# EAGLE library part IM920 (library IM920)
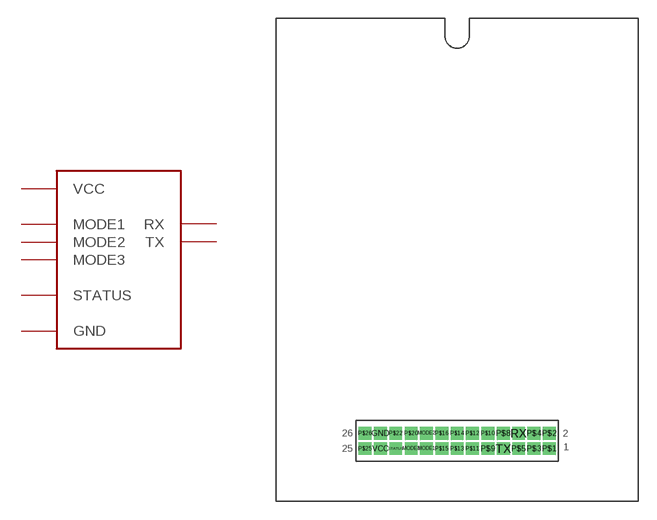
[diagram p0: symbol with the pads of IM920; footprint IM920]

Designator prefix -

## IM920  [IM920]
GND  GND
MODE1  MODE1
MODE2  MODE2
MODE3  MODE3
RX  RX
STATUS  STATUS
TX  TX
VCC  VCC

## Footprint IM920 (pad centres in mm)
drill 0.55 pad 1 square: GND -6.35,5.635; MODE1 -2.54,4.365; MODE2 -2.54,5.635; MODE3 -3.81,4.365; P$1 7.62,4.365; P$2 7.62,5.635; P$3 6.35,4.365; P$4 6.35,5.635; P$5 5.08,4.365; P$8 3.81,5.635; P$9 2.54,4.365; P$10 2.54,5.635; P$11 1.27,4.365; P$12 1.27,5.635; P$13 0,4.365; P$14 0,5.635; P$15 -1.27,4.365; P$16 -1.27,5.635; P$20 -3.81,5.635; P$22 -5.08,5.635; P$25 -7.62,4.365; P$26 -7.62,5.635; RX 5.08,5.635; STATUS -5.08,4.365; TX 3.81,4.365; VCC -6.35,4.365